# Altium schematic symbol library Wacky_1.SchLib: 11 symbols
Pins are listed as number, name and electrical type; pins without a type are passive.

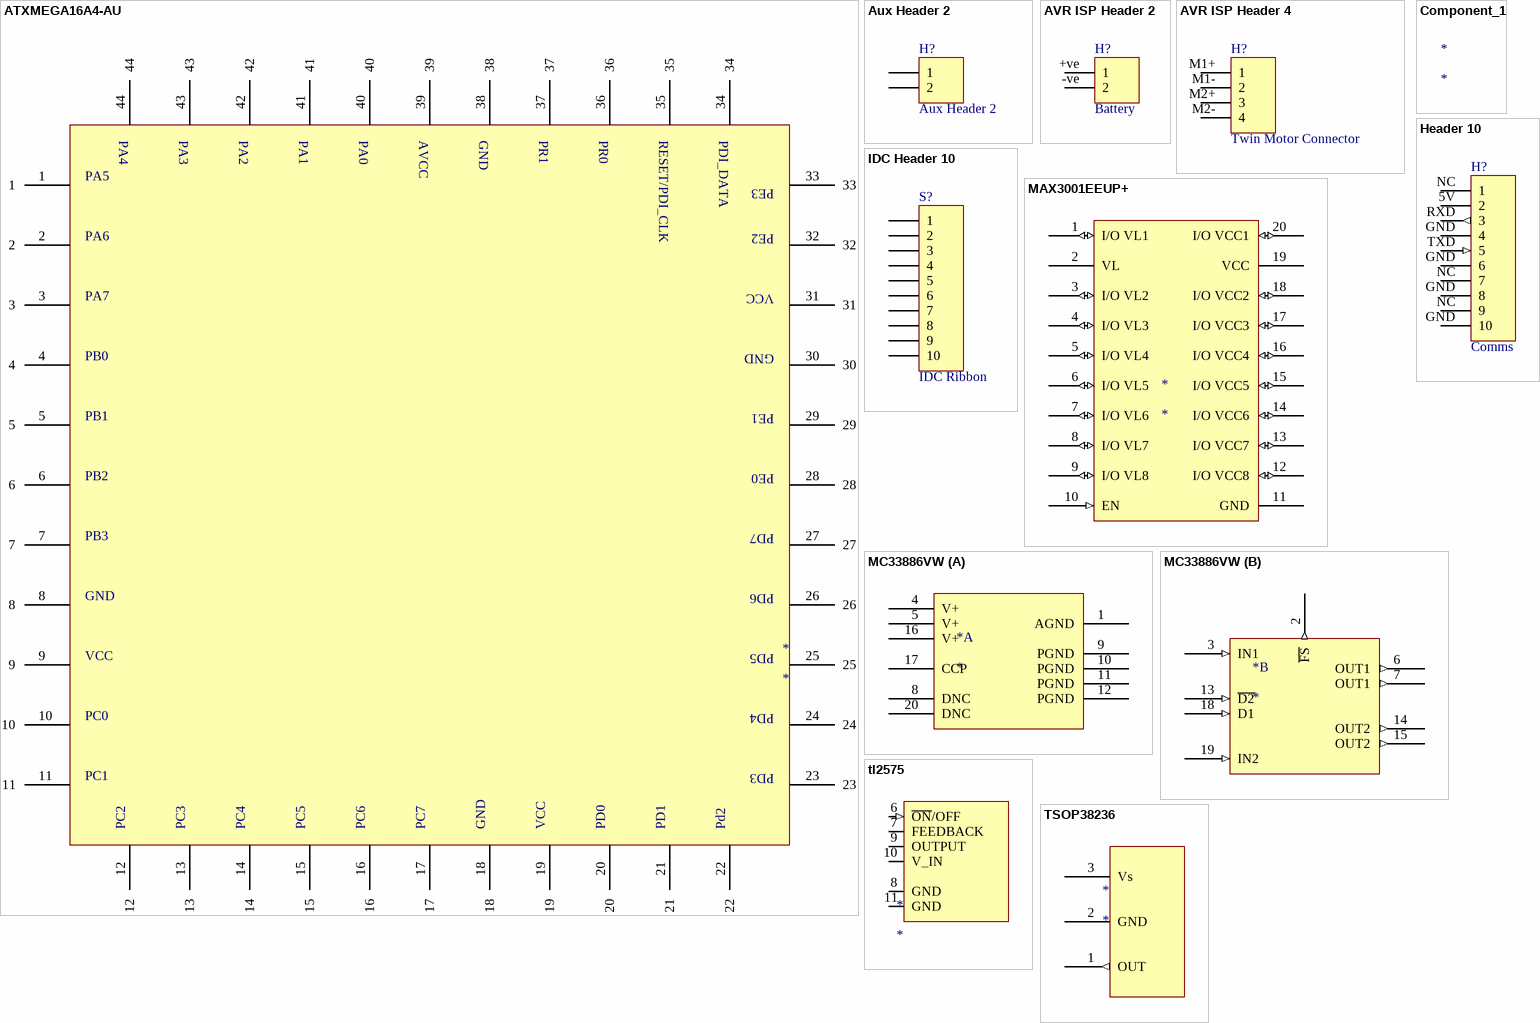
[diagram p0: symbols ATXMEGA16A4-AU to TSOP38236]

## ATXMEGA16A4-AU
designator *
pins: 1, 2, 3, 4, 5, 6, 7, 8, 9, 10, 11, 12, 13, 14, 15, 16, 17, 18, 19, 20, 21, 22, 23, 24, 25, 26, 27, 28, 29, 30, 31, 32, 33, 34, 35, 36, 37, 38, 39, 40, 41, 42, 43, 44
text: PA4; PA3; PA2; PA1; PA0; AVCC; GND; PR1; PR0; RESET/PDI_CLK; PDI_DATA; PA5; PE3; PE2; PA6; VCC; PA7; PB0; PE1; PB1; PE0; PB2; PD7; PB3; PD6; PD5; PD4; PC0; PD3; PC1; PC2; PC3; PC4; PC5; PC6; PC7; PD0; PD1; Pd2

## Aux Header 2
designator H?
5.08mm Pluggable Terminal Header; LatestRevisionDate: 17-Jul-2002; LatestRevisionNote: Re-released for DXP Platform.; Publisher: Altium Limited
signal-integrity model Connector
footprint TMHDR2 (5.08mm Pluggable Terminal Header)
pins: ?1 1, ?2 2

## AVR ISP Header 2
designator H?, comment Battery
5.08mm Pluggable Terminal Header; LatestRevisionDate: 17-Jul-2002; LatestRevisionNote: Re-released for DXP Platform.; Publisher: Altium Limited
signal-integrity model Connector
footprint TMHDR2 (5.08mm Pluggable Terminal Header)
pins: +ve 1 (power), -ve 2 (power)

## AVR ISP Header 4
designator H?, comment Twin Motor Connector
5.08mm Pluggable Terminal Header; LatestRevisionDate: 17-Jul-2002; LatestRevisionNote: Re-released for DXP Platform.; Publisher: Altium Limited
signal-integrity model Connector
footprint TMHDR4 (5.08mm Pluggable Terminal Header)
pins: M1+ 1, M1- 2, M2+ 3, M2- 4

## Component_1
designator *

## Header 10
designator H?, comment Comms
Header, IDC 10-Pin; LatestRevisionDate: 17-Jul-2002; LatestRevisionNote: Re-released for DXP Platform.; Publisher: Altium Limited
signal-integrity model Connector
footprint 918510x323 (Connector; IDC, Low Profile Male Header, Thru-Hole; 10 Position; Right Angle; Pitch 2.54 mm; Body 20.32 x 8.9 x 9.2 mm (LxWxH))
pins: 5V 2 (power), GND 4 (power), GND 6 (power), GND 8 (power), GND 10 (power), NC 1, NC 7, NC 9, RXD 3 (out), TXD 5 (in)

## IDC Header 10
designator S?, comment IDC Ribbon
IDC Header, 10-Pin; LatestRevisionDate: 17-Jul-2002; LatestRevisionNote: Re-released for DXP Platform.; Publisher: Altium Limited
footprint HDR1X10 (Connector; Header; 10 Position)
signal-integrity model Connector
pins: 1, 2, 3, 4, 5, 6, 7, 8, 9, 10

## MAX3001EEUP+
designator *
footprint TSOP65P640X110-20N (TSOP, 20-Leads, Body 6.6x4.5mm (max), Pitch 0.65mm, IPC Medium Density)
pins: 1 I/O VL1 (io), 2 VL (power), 3 I/O VL2 (io), 4 I/O VL3 (io), 5 I/O VL4 (io), 6 I/O VL5 (io), 7 I/O VL6 (io), 8 I/O VL7 (io), 9 I/O VL8 (io), 10 EN (in), 11 GND, 12 I/O VCC8 (io), 13 I/O VCC7 (io), 14 I/O VCC6 (io), 15 I/O VCC5 (io), 16 I/O VCC4 (io), 17 I/O VCC3 (io), 18 I/O VCC2 (io), 19 VCC (power), 20 I/O VCC1 (io)

## MC33886VW
designator *
footprint SOP127P1420X340_HS-20N (SOP, 20-Leads, Body 16.0x11.1mm (max), Pitch 1.27mm, IPC Medium Density)
part A pins: 1 AGND "Analog Ground", 4 V+ (power) "Positive Power Supply", 5 V+ (power) "Positive Power Supply", 8 DNC "Do Not Connect", 9 PGND "Power Ground", 10 PGND "Power Ground", 11 PGND "Power Ground", 12 PGND "Power Ground", 16 V+ (power) "Positive Power Supply", 17 CCP "Charge Pump Capacitor", 20 DNC "Do Not Connect"
part B pins: 2 ~{FS} (out) "Fault Status for H-Bridge", 3 IN1 (in) "Logic Input Control 1", 6 OUT1 (out) "H-Bridge Output 1", 7 OUT1 (out) "H-Bridge Output 1", 13 ~{D2} (in) "Disable 2", 14 OUT2 (out) "H-Bridge Output 2", 15 OUT2 (out) "H-Bridge Output 2", 18 D1 (in) "Disable 1", 19 IN2 (in) "Logic Input Control 2"

## tl2575
designator *
pins: 6 ~{ON}/OFF (in), 7 FEEDBACK, 8 GND, 9 OUTPUT, 10 V_IN, 11 GND

## TSOP38236
designator *
footprint TSOP38236 IR Receiver (Vishay IR Receiver Module)
pins: 1 OUT (out), 2 GND (power), 3 Vs (power)